# EAGLE library part 618025231321 (library Wuerth_Elektronik_eiCan_D-SUB_Connectors)
WR-DSUB 10.3mm Female Angled PCB Connector with Hex Screw, 25 Pins
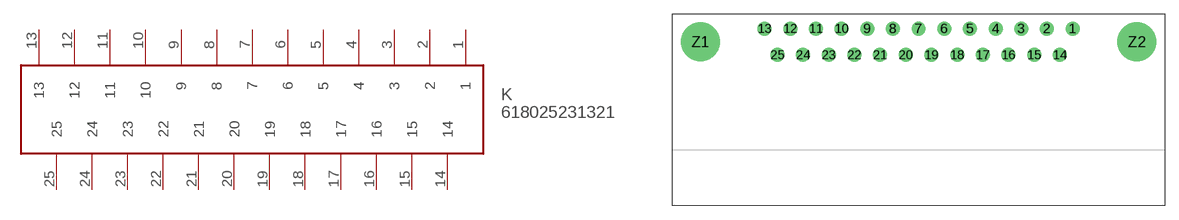
[diagram p38: symbol with the pads of 618025231321; footprint 618025231321]

Designator prefix K

## 618025231321  [618025231321]
1  1
2  2
3  3
4  4
5  5
6  6
7  7
8  8
9  9
10  10
11  11
12  12
13  13
14  14
15  15
16  16
17  17
18  18
19  19
20  20
21  21
22  22
23  23
24  24
25  25

## Footprint 618025231321 (pad centres in mm)
WR-DSUB 10.3mm Female Angled PCB Connector with Hex Screw, 25 Pins
drill 1: 1 16.62,1.42; 2 13.85,1.42; 3 11.08,1.42; 4 8.31,1.42; 5 5.54,1.42; 6 2.77,1.42; 7 0,1.42; 8 -2.77,1.42; 9 -5.54,1.42; 10 -8.31,1.42; 11 -11.08,1.42; 12 -13.85,1.42; 13 -16.62,1.42; 14 15.235,-1.42; 15 12.465,-1.42; 16 9.695,-1.42; 17 6.925,-1.42; 18 4.155,-1.42; 19 1.385,-1.42; 20 -1.385,-1.42; 21 -4.155,-1.42; 22 -6.925,-1.42; 23 -9.695,-1.42; 24 -12.465,-1.42; 25 -15.235,-1.42
drill 3.2: Z1 -23.55,0; Z2 23.55,0